# Altium schematic symbol library Ant.SchLib: 1 symbol
Pins are listed as number, name and electrical type; pins without a type are passive.

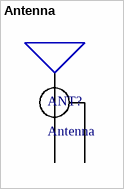
[diagram p0: symbol Antenna]

## Antenna
designator ANT?
pins: 1, 2